# Altium footprint library CAP_450V_330uF.PcbLib: 1 footprints
Each footprint in its own frame and in the unit in brackets; x right, y up, seen from the top. Pads: shape width x height; smd on the part's side, far side on the other; paste and mask are expansions set on the pad; w line width, h text height; cw(c..) or ccw(c..) is an arc to the next point about the centre after c.
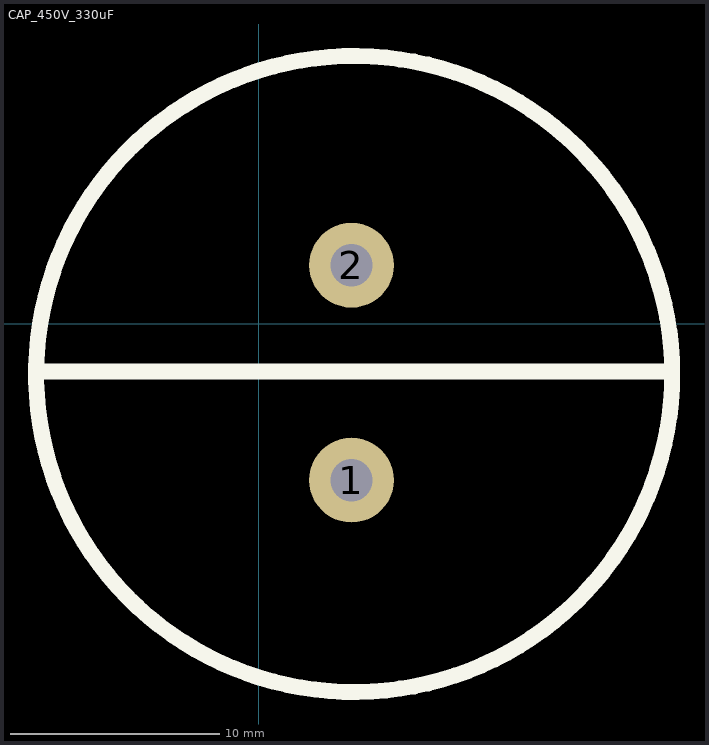
[diagram p0: the footprint, top view; thin cyan lines are the x and y axes]

## CAP_450V_330uF [mil]
pads (2):
  round 160 hole 80: 1(175,-295) 2(175,110)
Top Overlay:
  circle w30: c180,-95 r599.44
  lines w30: -420,-90 774.44,-90
3D body "Yadacon 450V 330uF CD29H.STEP": height 2065.05, standoff -190.85, extent -420,-690.39 770.94,502.52